# Altium schematic symbol library CABLE-505-50-2.Schlib: 1 symbol
Pins are listed as number, name and electrical type; pins without a type are passive.

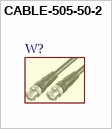
[diagram p0: symbol CABLE-505-50-2]

## CABLE-505-50-2
designator W?  (value not drawn)  (mechanical)